# EAGLE library part ATTINY20 (library 1_Robo-Lib)
ATtiny20 The high-performance, low-power Atmel 8-bit AVR RISC-based microcontroller combines 2KB ISP flash memory, 128B SRAM, twelve general purpose I/O lines, 16 general purpose working registers, an 8-bit timer/counter with two PWM channels, a 16-bit timer/counter with two PWM channels, internal and external interrupts, an 8-channel 10-bit A/D converter, programmable watchdog timer with internal oscillator, a slave two-wire interface, a master/slave serial peripheral interface, an internal calibrated oscillator, and four software selectable power saving modes. The device operates between 1.8-5.5 volts. By executing powerful instructions in a single clock cycle, the device achieves throughputs approaching 1 MIPS per MHz, balancing power consumption and processing speed.
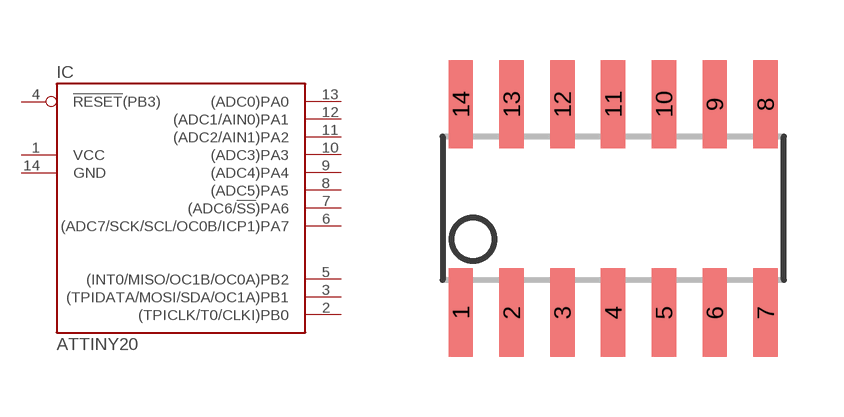
[diagram p13: symbol with the pads of SO14; footprint SO14]

Designator prefix IC

## ATTINY20  [SO14]
1  VCC  pwr
2  (TPICLK/T0/CLKI)PB0
3  (TPIDATA/MOSI/SDA/OC1A)PB1
4  !RESET!(PB3)
5  (INT0/MISO/OC1B/OC0A)PB2
6  (ADC7/SCK/SCL/OC0B/ICP1)PA7
7  (ADC6/!SS!)PA6
8  (ADC5)PA5
9  (ADC4)PA4
10  (ADC3)PA3
11  (ADC2/AIN1)PA2
12  (ADC1/AIN0)PA1
13  (ADC0)PA0
14  GND  pwr

## Footprint SO14 (pad centres in mm)
Small Outline Package
smd 0.61 x 2.21: 1 -3.81,-2.603; 2 -2.54,-2.603; 3 -1.27,-2.603; 4 0,-2.603; 5 1.27,-2.603; 6 2.54,-2.603; 7 3.81,-2.603; 8 3.81,2.603; 9 2.54,2.603; 10 1.27,2.603; 11 0,2.603; 12 -1.27,2.603; 13 -2.54,2.603; 14 -3.81,2.603